# Altium schematic symbol library Schlib1.SchLib: 1 symbol
Pins are listed as number, name and electrical type; pins without a type are passive.

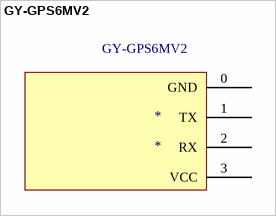
[diagram p0: symbol GY-GPS6MV2]

## GY-GPS6MV2
designator *
footprint GY-GPS6MV2 (Footprint not found)
pins: 0 GND, 1 TX, 2 RX, 3 VCC